# Altium footprint library PcbLib1.PcbLib: 226 footprints (part 3 of 15)
Each footprint in its own frame and in the unit in brackets; x right, y up, seen from the top. Pads: shape width x height; smd on the part's side, far side on the other; paste and mask are expansions set on the pad; w line width, h text height; cw(c..) or ccw(c..) is an arc to the next point about the centre after c.
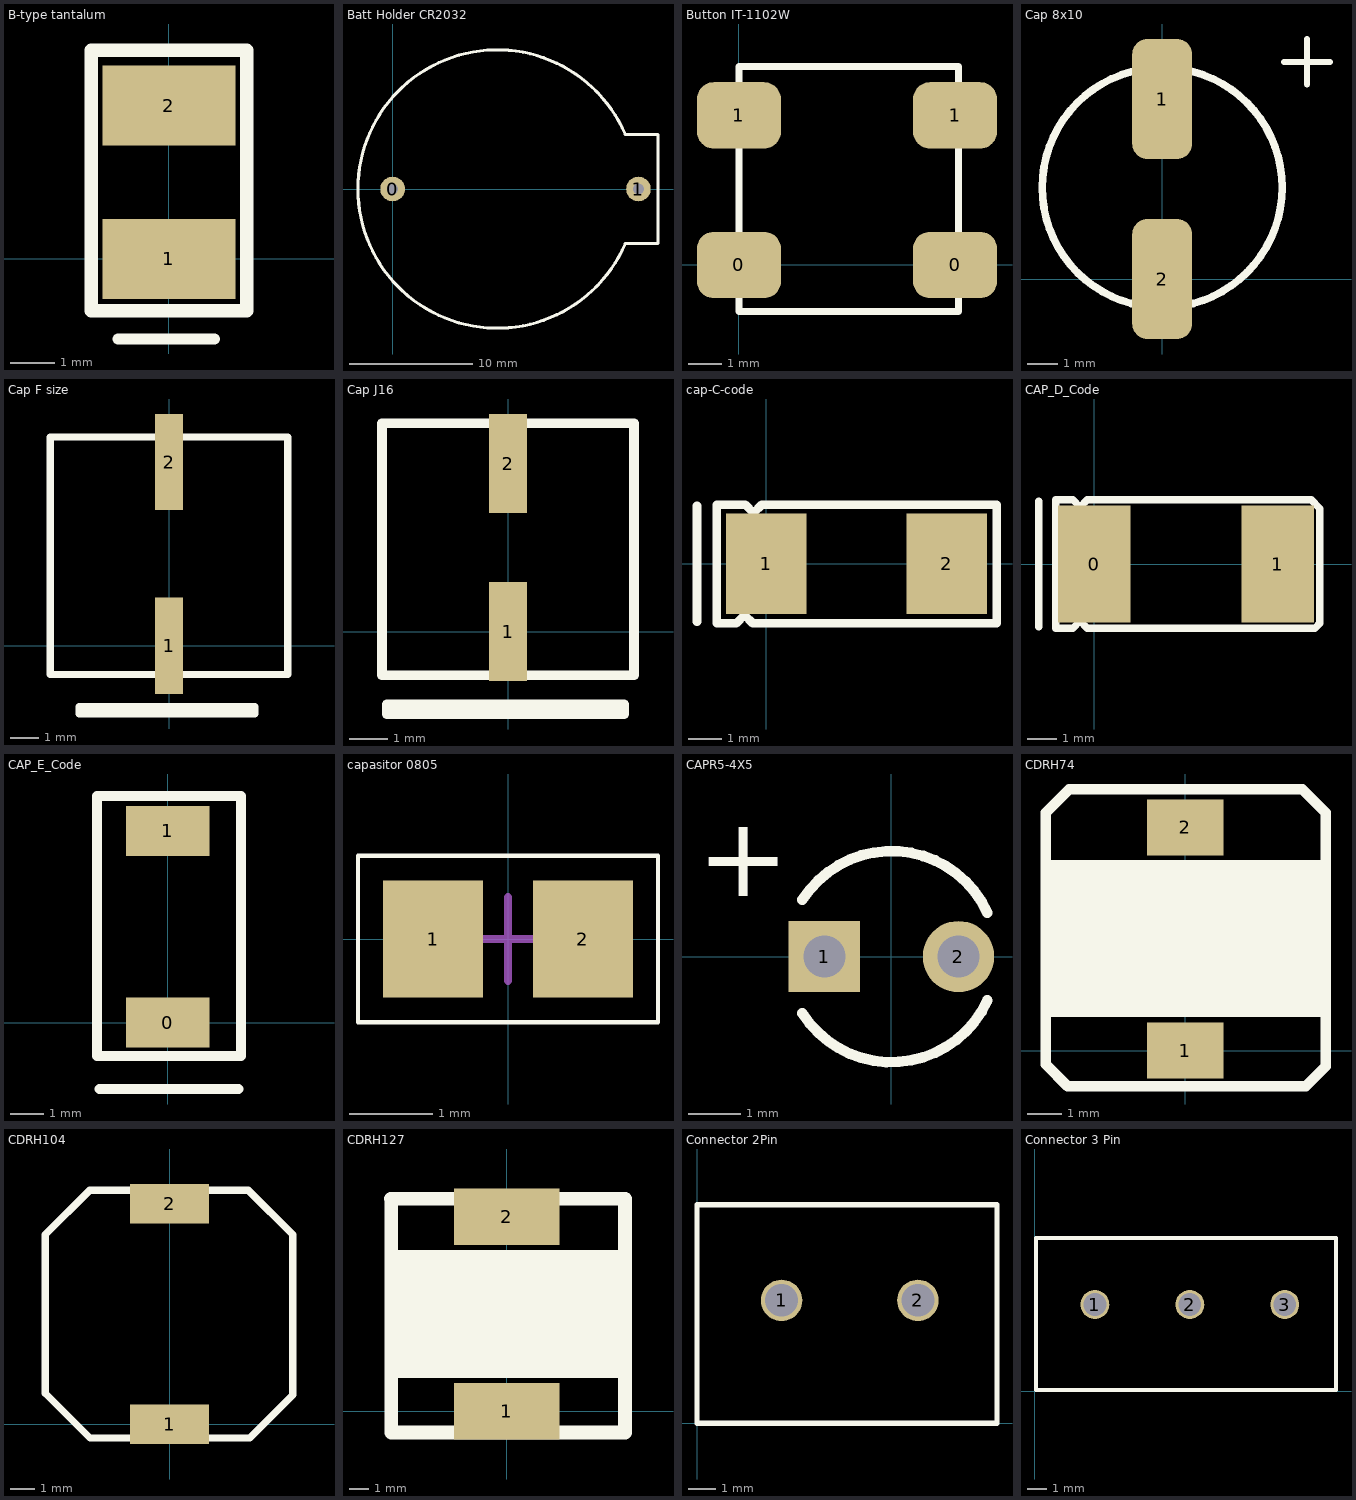
[diagram p2: the footprints below, top view; thin cyan lines are the x and y axes]

## B-type tantalum [mm]
height 2
pads (2):
  rect 3x1.8 smd: 1(0,0) 2(0,3.45)
Top Overlay:
  lines w0.254: -1.143,-1.803 1.016,-1.803
  lines w0.3: -1.753,-1.168 1.753,-1.168 1.753,4.699 -1.753,4.699 -1.753,-1.168

## Batt Holder CR2032 [mm]
height 5
pads (2):
  round 2 hole 0.9: 0(0,0) 1(20,0)
Top Overlay:
  lines w0.254: 18.923,-4.445 cw(c8.509,0) 18.923,4.445 21.59,4.445 21.59,-4.445 18.923,-4.445

## Button IT-1102W [mm]
height 7
pads (4):
  rrect50% 2.524x2 smd: 0(0,0) 0(6.5,0) 1(0,4.5) 1(6.5,4.5)
Top Overlay:
  lines w0.2: 0,-1.397 6.604,-1.397 6.604,5.969 0,5.969 0,-1.397

## Cap 8x10 [mm]
pads (2):
  rrect50% 2x4 smd: 1(0,6) 2(0,0)
Top Overlay:
  circle w0.254: c0,3.048 r4
  lines w0.2: 4.064,7.239 5.588,7.239 ; 4.826,6.477 4.826,8.001

## Cap F size [mm]
height 10
pads (2):
  rect 1x3.4 smd: 1(0,0) 2(0,6.5)
Top Overlay:
  lines w0.254: 4.2,-1.016 0,-1.016 -4.2,-1.016 -4.2,7.384 4.2,7.384 4.2,-1.016 ; 4.2,-1.016 4.2,-1.016 ; -3.175,-2.413 3.048,-2.413 3.048,-2.159 -3.175,-2.159 -3.175,-2.413

## Cap J16 [mm]
height 16
pads (2):
  rect 1x2.6 smd: 1(0,0) 2(0,4.4)
Top Overlay:
  lines w0.254: -3.3,-1.143 -3.3,5.457 3.3,5.457 3.3,-1.143 0,-1.143 -3.3,-1.143 ; -3.175,-2.159 -3.175,-1.905 3.048,-1.905 3.048,-2.159 -3.175,-2.159

## cap-C-code [mm]
height 2
pads (2):
  rect 2.4x3 smd: 1(0,0) 2(5.385,0)
Top Overlay:
  lines w0.254: -2.057,-1.737 -2.057,1.727 ; -1.473,-1.778 -0.884,-1.778 -0.64,-1.534 -0.396,-1.778 -0.152,-1.778 6.883,-1.778 6.883,1.758 -0.127,1.758 -0.371,1.515 -0.615,1.758 -1.473,1.758 -1.473,-1.778

## CAP_D_Code [mm]
height 3
pads (2):
  rect 2.5x4 smd: 0(0,0) 1(6.299,0)
Top Overlay:
  lines w0.254: -1.905,-2.159 -1.905,2.159 ; -1.321,-2.2 -1.321,2.2 -0.731,2.2 -0.487,1.956 -0.244,2.2 0,2.2 6.69,2.2 7.452,2.2 7.747,1.905 7.747,-2.032 7.579,-2.2 0,-2.2 -0.244,-2.2 -0.487,-1.956 -0.731,-2.2 -1.321,-2.2

## CAP_E_Code [mm]
height 3
pads (2):
  rect 2.5x1.5 smd: 0(0,0) 1(0,5.715)
Top Overlay:
  lines w0.3: -2.032,-1.981 2.108,-1.981 ; -2.108,-0.991 -2.108,6.756 2.184,6.756 2.184,-0.991 -2.108,-0.991

## capasitor 0805 [mm]
pads (2):
  rect 1.2x1.4 smd: 1(-0.9,0) 2(0.9,0)
Top Overlay:
  lines w0.05: -1.8,-1 1.8,-1 1.8,1 -1.8,1 -1.8,-1
Mechanical 15:
  lines w0.1: -0.5,0 0.5,0 ; 0,-0.5 0,0.5

## CAPR5-4X5 [mm] "Capacitor; 2 Leads"
height 12
pads (2):
  rect 1.35x1.35 hole 0.8: 1(-1.27,0)
  round 1.35 hole 0.8: 2(1.27,0)
Top Overlay:
  lines w0.2: -1.687,-1.075 ccw(c0,0) 1.819,-0.832 ; -1.687,1.075 cw(c0,0) 1.819,0.832
  text "+" at -3.683,1.143 h1.52

## CDRH74 [mm]
height 4
pads (2):
  rect 2.2x1.6 smd: 1(0,0) 2(0,6.4)
Top Overlay:
  rectangle: -3.962,0.965 4.039,5.461
  lines w0.3: -4,-0.394 -3.378,-1.016 3.454,-1.016 4.029,-0.441 4.029,6.817 3.353,7.493 -3.327,7.493 -4,6.82 -4,-0.394

## CDRH104 [mm]
height 4
pads (2):
  rect 3.2x1.6 smd: 1(0,0) 2(0,8.9)
Top Overlay:
  lines w0.3: -5.022,1.262 -5.022,7.653 -3.226,9.449 3.175,9.449 4.978,7.645 4.978,1.194 3.233,-0.551 -3.208,-0.551 -5.022,1.262

## CDRH127 [mm]
height 7
pads (2):
  rect 5.4x2.9 smd: 1(0,0) 2(0,10)
Top Overlay:
  rectangle: -6.02,1.727 6.147,8.28
  lines w0.7: -5.944,10.922 -5.933,10.912 -5.933,-1.082 6.067,-1.082 6.067,10.918 6.063,10.922 -5.944,10.922

## Connector 2Pin [mm]
pads (2):
  round 1.524 hole 1.2 mask+0.3: 1(3.1,4.5) 2(8.1,4.5)
Top Overlay:
  lines w0.2: 0,0 11,0 11,8 0,8 0,0

## Connector 3 Pin [mil]
pads (3):
  round 60 hole 47.24 mask+11.81: 1(125,180) 2(321.85,180) 3(518.7,180)
Top Overlay:
  lines w7.87: 2.95,2.83 625,2.83 625,317.8 2.95,317.8 2.95,2.83